# EAGLE library part AP2502KTR-G1 (library pimoroni-ics)
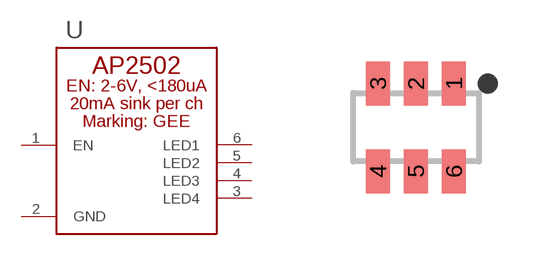
[diagram p111: symbol with the pads of SOT-23-6; footprint SOT-23-6]

Designator prefix U

## AP2502KTR-G1  [SOT-23-6]
1  EN
2  GND
3  LED4
4  LED3
5  LED2
6  LED1

## Footprint SOT-23-6 (pad centres in mm)
smd 0.6 x 1.1: 1 0.95,1.1; 2 0,1.1; 3 -0.95,1.1; 4 -0.95,-1.1; 5 0,-1.1; 6 0.95,-1.1